# EAGLE library part AD8376 (library AnalogDevices)
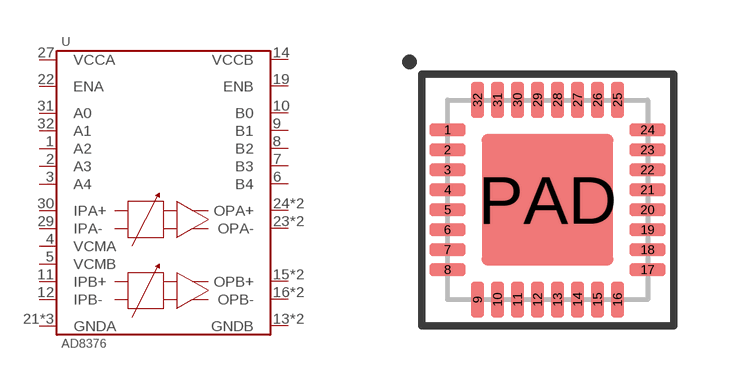
[diagram p14: symbol with the pads of WFQFN-32-5MM; footprint WFQFN-32-5MM]

Designator prefix U

## AD8376ACPZ-R7  [WFQFN-32-5MM]
1  A2
2  A3
3  A4
4  VCMA
5  VCMB
6  B4
7  B3
8  B2
9  B1
10  B0
11  IPB+
12  IPB-
13  GNDB
14  VCCB
15  OPB+
16  OPB-
17  OPB+
18  OPB-
19  ENB
20  GNDB
21  GNDA
22  ENA
23  OPA-
24  OPA+
25  OPA-
26  OPA+
27  VCCA
28  GNDA
29  IPA-
30  IPA+
31  A0
32  A1
PAD  GNDA

## Footprint WFQFN-32-5MM (pad centres in mm)
smd 0.9 x 0.325: 1 -2.5,1.75; 2 -2.5,1.25; 3 -2.5,0.75; 4 -2.5,0.25; 5 -2.5,-0.25; 6 -2.5,-0.75; 7 -2.5,-1.25; 8 -2.5,-1.75; 17 2.5,-1.75; 18 2.5,-1.25; 19 2.5,-0.75; 20 2.5,-0.25; 21 2.5,0.25; 22 2.5,0.75; 23 2.5,1.25; 24 2.5,1.75
smd 0.325 x 0.9: 9 -1.75,-2.5; 10 -1.25,-2.5; 11 -0.75,-2.5; 12 -0.25,-2.5; 13 0.25,-2.5; 14 0.75,-2.5; 15 1.25,-2.5; 16 1.75,-2.5; 25 1.75,2.5; 26 1.25,2.5; 27 0.75,2.5; 28 0.25,2.5; 29 -0.25,2.5; 30 -0.75,2.5; 31 -1.25,2.5; 32 -1.75,2.5
smd 3.3 x 3.3: PAD 0,0